# EAGLE library part ATMEGA644 (library 1_Robo-Lib)
8-bit Microcontroller with 64K Bytes In-System Programmable Flash Source: http://www.atmel.com/dyn/resources/prod_documents/doc2593.pdf
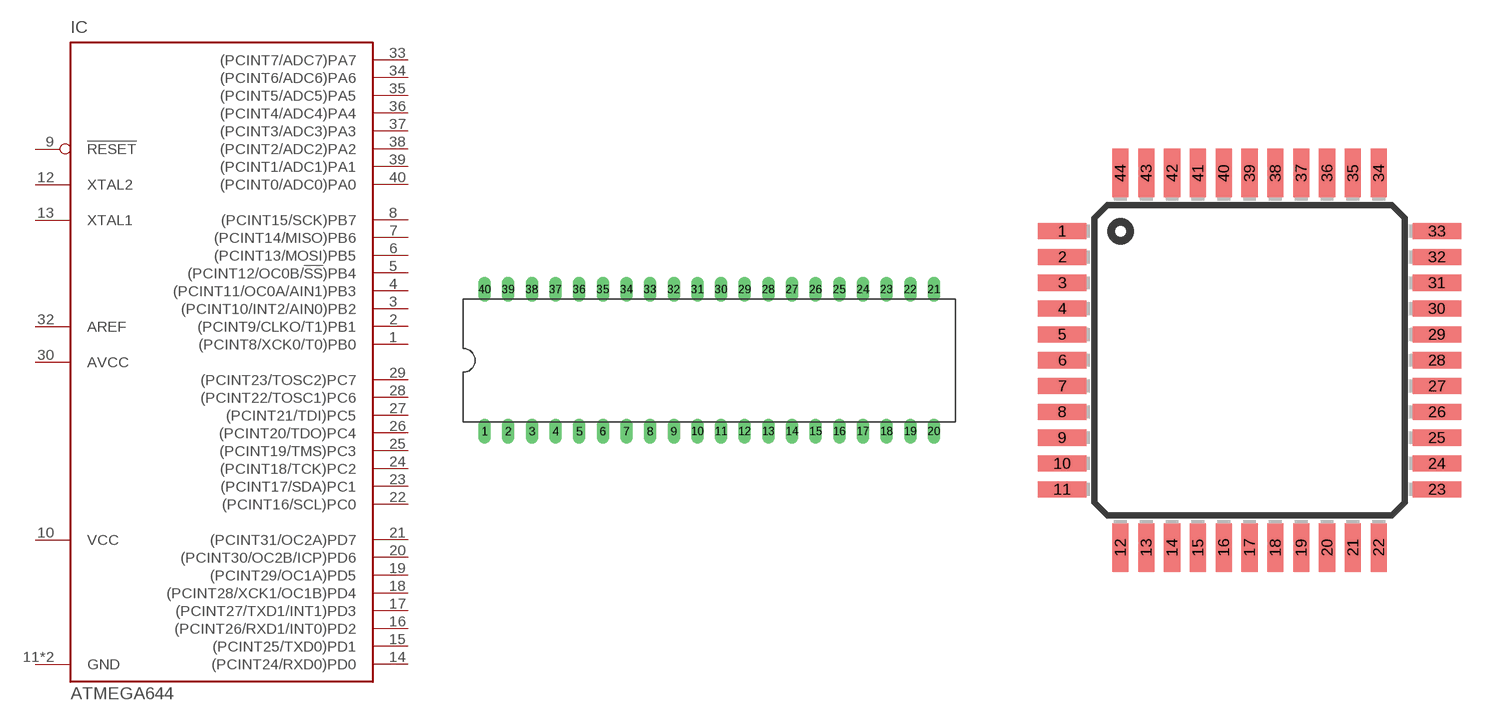
[diagram p1: symbol with the pads of DIL40; footprints DIL40, TQFP44]

Designator prefix IC

## ATMEGA644DIL  [DIL40]
1  (PCINT8/XCK0/T0)PB0
2  (PCINT9/CLKO/T1)PB1
3  (PCINT10/INT2/AIN0)PB2
4  (PCINT11/OC0A/AIN1)PB3
5  (PCINT12/OC0B/!SS!)PB4
6  (PCINT13/MOSI)PB5
7  (PCINT14/MISO)PB6
8  (PCINT15/SCK)PB7
9  !RESET  in
10  VCC  pwr
11  GND  pwr
12  XTAL2
13  XTAL1
14  (PCINT24/RXD0)PD0
15  (PCINT25/TXD0)PD1
16  (PCINT26/RXD1/INT0)PD2
17  (PCINT27/TXD1/INT1)PD3
18  (PCINT28/XCK1/OC1B)PD4
19  (PCINT29/OC1A)PD5
20  (PCINT30/OC2B/ICP)PD6
21  (PCINT31/OC2A)PD7
22  (PCINT16/SCL)PC0  out
23  (PCINT17/SDA)PC1  out
24  (PCINT18/TCK)PC2  out
25  (PCINT19/TMS)PC3  out
26  (PCINT20/TDO)PC4  out
27  (PCINT21/TDI)PC5  out
28  (PCINT22/TOSC1)PC6  out
29  (PCINT23/TOSC2)PC7  out
30  AVCC  pwr
31  GND  pwr
32  AREF  pas
33  (PCINT7/ADC7)PA7
34  (PCINT6/ADC6)PA6
35  (PCINT5/ADC5)PA5
36  (PCINT4/ADC4)PA4
37  (PCINT3/ADC3)PA3
38  (PCINT2/ADC2)PA2
39  (PCINT1/ADC1)PA1
40  (PCINT0/ADC0)PA0

## ATMEGA644TQFP  [TQFP44]
1  (PCINT13/MOSI)PB5
2  (PCINT14/MISO)PB6
3  (PCINT15/SCK)PB7
4  !RESET  in
5  VCC  pwr
6  GND  pwr
7  XTAL2
8  XTAL1
9  (PCINT24/RXD0)PD0
10  (PCINT25/TXD0)PD1
11  (PCINT26/RXD1/INT0)PD2
12  (PCINT27/TXD1/INT1)PD3
13  (PCINT28/XCK1/OC1B)PD4
14  (PCINT29/OC1A)PD5
15  (PCINT30/OC2B/ICP)PD6
16  (PCINT31/OC2A)PD7
17  VCC  pwr
18  GND  pwr
19  (PCINT16/SCL)PC0  out
20  (PCINT17/SDA)PC1  out
21  (PCINT18/TCK)PC2  out
22  (PCINT19/TMS)PC3  out
23  (PCINT20/TDO)PC4  out
24  (PCINT21/TDI)PC5  out
25  (PCINT22/TOSC1)PC6  out
26  (PCINT23/TOSC2)PC7  out
27  AVCC  pwr
28  GND  pwr
29  AREF  pas
30  (PCINT7/ADC7)PA7
31  (PCINT6/ADC6)PA6
32  (PCINT5/ADC5)PA5
33  (PCINT4/ADC4)PA4
34  (PCINT3/ADC3)PA3
35  (PCINT2/ADC2)PA2
36  (PCINT1/ADC1)PA1
37  (PCINT0/ADC0)PA0
38  VCC  pwr
39  GND  pwr
40  (PCINT8/XCK0/T0)PB0
41  (PCINT9/CLKO/T1)PB1
42  (PCINT10/INT2/AIN0)PB2
43  (PCINT11/OC0A/AIN1)PB3
44  (PCINT12/OC0B/!SS!)PB4

## ATMEGA644TQFP_BREAKOUT  [TQFP44_BREAKOUT]
Pads as for TQFP44

## Footprint DIL40 (pad centres in mm)
Dual In Line
drill 0.813 long: 1 -24.13,-7.62; 2 -21.59,-7.62; 3 -19.05,-7.62; 4 -16.51,-7.62; 5 -13.97,-7.62; 6 -11.43,-7.62; 7 -8.89,-7.62; 8 -6.35,-7.62; 9 -3.81,-7.62; 10 -1.27,-7.62; 11 1.27,-7.62; 12 3.81,-7.62; 13 6.35,-7.62; 14 8.89,-7.62; 15 11.43,-7.62; 16 13.97,-7.62; 17 16.51,-7.62; 18 19.05,-7.62; 19 21.59,-7.62; 20 24.13,-7.62; 21 24.13,7.62; 22 21.59,7.62; 23 19.05,7.62; 24 16.51,7.62; 25 13.97,7.62; 26 11.43,7.62; 27 8.89,7.62; 28 6.35,7.62; 29 3.81,7.62; 30 1.27,7.62; 31 -1.27,7.62; 32 -3.81,7.62; 33 -6.35,7.62; 34 -8.89,7.62; 35 -11.43,7.62; 36 -13.97,7.62; 37 -16.51,7.62; 38 -19.05,7.62; 39 -21.59,7.62; 40 -24.13,7.62

## Footprint TQFP44 (pad centres in mm)
44-lead Thin Quad Flat Package
smd 1.5 x 0.5: 1 -5.8,4; 2 -5.8,3.2; 3 -5.8,2.4; 4 -5.8,1.6; 5 -5.8,0.8; 6 -5.8,0; 7 -5.8,-0.8; 8 -5.8,-1.6; 9 -5.8,-2.4; 10 -5.8,-3.2; 11 -5.8,-4; 23 5.8,-4; 24 5.8,-3.2; 25 5.8,-2.4; 26 5.8,-1.6; 27 5.8,-0.8; 28 5.8,0; 29 5.8,0.8; 30 5.8,1.6; 31 5.8,2.4; 32 5.8,3.2; 33 5.8,4
smd 0.5 x 1.5: 12 -4,-5.8; 13 -3.2,-5.8; 14 -2.4,-5.8; 15 -1.6,-5.8; 16 -0.8,-5.8; 17 0,-5.8; 18 0.8,-5.8; 19 1.6,-5.8; 20 2.4,-5.8; 21 3.2,-5.8; 22 4,-5.8; 34 4,5.8; 35 3.2,5.8; 36 2.4,5.8; 37 1.6,5.8; 38 0.8,5.8; 39 0,5.8; 40 -0.8,5.8; 41 -1.6,5.8; 42 -2.4,5.8; 43 -3.2,5.8; 44 -4,5.8

## Footprint TQFP44_BREAKOUT (pad centres in mm)
BREAKOUT 44-lead Thin Quad Flat Package
drill 0.8 square: 1 -8.365,5; 12 -5,-8.365; 23 8.365,-5; 34 5,8.365
drill 0.8: 2 -10.365,5; 3 -8.365,3; 4 -10.365,3; 5 -8.365,1; 6 -10.365,1; 7 -8.365,-1; 8 -10.365,-1; 9 -8.365,-3; 10 -10.365,-3; 11 -8.365,-5; 11B -10.365,-5; 13 -5,-10.365; 14 -3,-8.365; 15 -3,-10.365; 16 -1,-8.365; 17 -1,-10.365; 18 1,-8.365; 19 1,-10.365; 20 3,-8.365; 21 3,-10.365; 22 5,-8.365; 22B 5,-10.365; 24 10.365,-5; 25 8.365,-3; 26 10.365,-3; 27 8.365,-1; 28 10.365,-1; 29 8.365,1; 30 10.365,1; 31 8.365,3; 32 10.365,3; 33 8.365,5; 33B 10.365,5; 35 5,10.365; 36 3,8.365; 37 3,10.365; 38 1,8.365; 39 1,10.365; 40 -1,8.365; 41 -1,10.365; 42 -3,8.365; 43 -3,10.365; 44 -5,8.365; 44B -5,10.365